# EAGLE library part 74*154 (library IC)
4-TO-16 line decoder/demultiplexer http://www.nxp.com/documents/data_sheet/74HC_HCT154.pdf
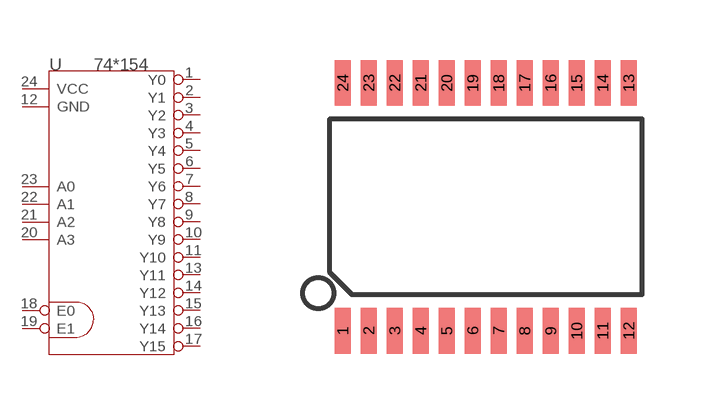
[diagram p52: symbol with the pads of TSSOP24; footprint TSSOP24]

Designator prefix U

## 74HC154PW, 74HCT154PW  [TSSOP24]
1  Y0
2  Y1
3  Y2
4  Y3
5  Y4
6  Y5
7  Y6
8  Y7
9  Y8
10  Y9
11  Y10
12  GND  sup
13  Y11
14  Y12
15  Y13
16  Y14
17  Y15
18  E0  in
19  E1  in
20  A3
21  A2
22  A1
23  A0
24  VCC  sup

## Footprint TSSOP24 (pad centres in mm)
smd 0.4 x 1.15: 1 -3.575,-3.1; 2 -2.925,-3.1; 3 -2.275,-3.1; 4 -1.625,-3.1; 5 -0.975,-3.1; 6 -0.325,-3.1; 7 0.325,-3.1; 8 0.975,-3.1; 9 1.625,-3.1; 10 2.275,-3.1; 11 2.925,-3.1; 12 3.575,-3.1; 13 3.575,3.1; 14 2.925,3.1; 15 2.275,3.1; 16 1.625,3.1; 17 0.975,3.1; 18 0.325,3.1; 19 -0.325,3.1; 20 -0.975,3.1; 21 -1.625,3.1; 22 -2.275,3.1; 23 -2.925,3.1; 24 -3.575,3.1